# Altium footprint library MHI_Board.PcbLib: 12 footprints
Each footprint in its own frame and in the unit in brackets; x right, y up, seen from the top. Pads: shape width x height; smd on the part's side, far side on the other; paste and mask are expansions set on the pad; w line width, h text height; cw(c..) or ccw(c..) is an arc to the next point about the centre after c.
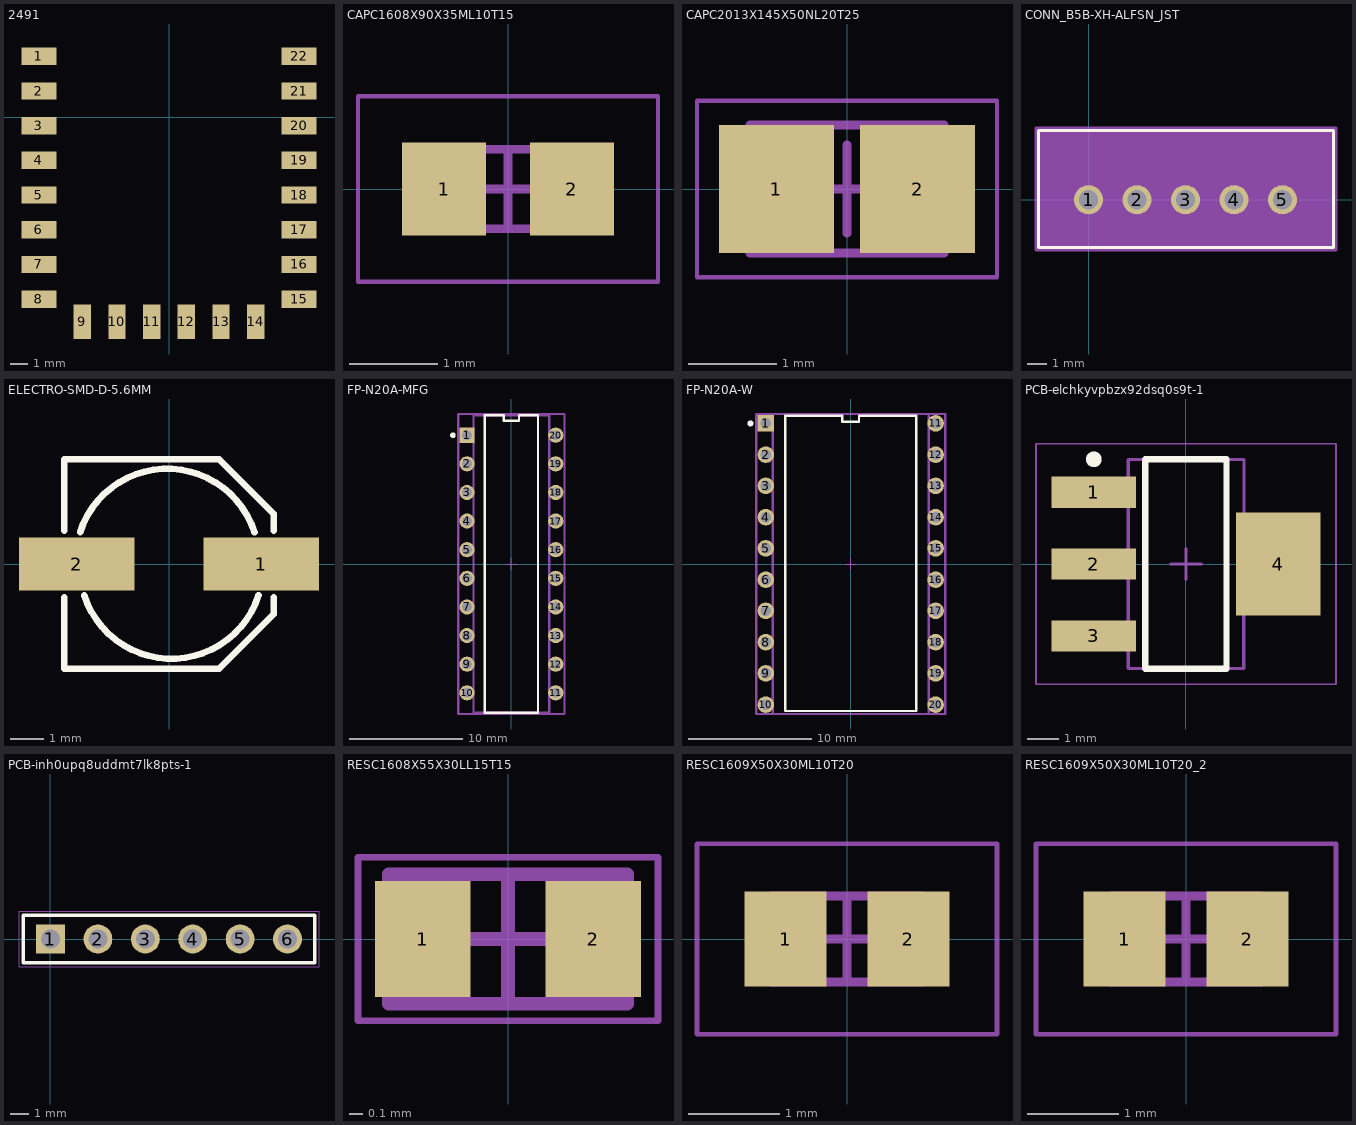
[diagram p0: the footprints below, top view; thin cyan lines are the x and y axes]

## 2491 [mm]
pads (22):
  rect 2x1 smd: 1(-7.5,3.5) 2(-7.5,1.5) 3(-7.5,-0.5) 4(-7.5,-2.5) 5(-7.5,-4.5) 6(-7.5,-6.5) 7(-7.5,-8.5) 8(-7.5,-10.5) 15(7.5,-10.5) 16(7.5,-8.5) 17(7.5,-6.5) 18(7.5,-4.5) 19(7.5,-2.5) 20(7.5,-0.5) 21(7.5,1.5) 22(7.5,3.5)
  rect 1x2 smd: 9(-5,-11.8) 10(-3,-11.8) 11(-1,-11.8) 12(1,-11.8) 13(3,-11.8) 14(5,-11.8)
3D body "ESP8266-12.step": height 3.82, standoff -0.05, extent -8.009,-12.03 8.006,12

## CAPC1608X90X35ML10T15 [mm]
pads (2):
  rect 0.95x1.05 smd: 1(-0.725,0) 2(0.725,0)
Mechanical 13:
  lines w0.1: -0.85,-0.45 -0.85,0.45 0.85,0.45 0.85,-0.45 -0.85,-0.45
Mechanical 15:
  lines w0.05: -1.7,-1.05 -1.7,1.05 1.7,1.05 1.7,-1.05 -1.7,-1.05
  lines w0.1: -0.45,0 0.45,0 ; 0,-0.45 0,0.45
3D body: height 0.9, standoff 0, extent -0.5,-0.45 0.5,0.45
3D body: height 0.9, standoff 0, extent -0.85,-0.45 -0.5,0.45
3D body: height 0.9, standoff 0, extent 0.5,-0.45 0.85,0.45

## CAPC2013X145X50NL20T25 [mm]
pads (2):
  rect 1.3x1.45 smd: 1(-0.8,0) 2(0.8,0)
Mechanical 13:
  lines w0.1: -1.1,-0.725 -1.1,0.725 1.1,0.725 1.1,-0.725 -1.1,-0.725
Mechanical 15:
  lines w0.05: -1.7,-1 -1.7,1 1.7,1 1.7,-1 -1.7,-1
  lines w0.1: -0.5,0 0.5,0 ; 0,-0.5 0,0.5
3D body: height 1.45, standoff 0, extent -0.6,-0.725 0.6,0.725
3D body: height 1.45, standoff 0, extent -1.1,-0.725 -0.6,0.725
3D body: height 1.45, standoff 0, extent 0.6,-0.725 1.1,0.725

## CONN_B5B-XH-ALFSN_JST [mil]
pads (5):
  round 59 / inner round 60 / far side round 59 hole 39 paste-29.5 mask+0: 1(0,0) 2(98.43,0) 3(196.85,0) 4(295.28,0) 5(393.7,0)
Top Overlay:
  lines w6: -101.67,-97.17 497.33,-97.17 497.33,140.83 -101.67,140.83 -101.67,-97.17
Mechanical 13:
  circle w20: c0,-75 r15
  lines w1: -96.67,-92.17 492.33,-92.17 492.33,135.83 -96.67,135.83 -96.67,-92.17
Mechanical 15:
  region: 502.33,145.83 -106.67,145.83 -106.67,-102.17 502.33,-102.17
  lines w6: -106.67,-102.17 -106.67,145.83 502.33,145.83 502.33,-102.17 -106.67,-102.17

## ELECTRO-SMD-D-5.6MM [mm]
pads (2):
  rect 3.5x1.6 smd: 1(2.8,0) 2(-2.8,0)
Top Overlay:
  lines w0.203: -3.175,-1.016 -3.175,-3.175 1.524,-3.175 3.175,-1.524 3.175,-1.016 ; -3.175,1.016 -3.175,3.175 1.524,3.175 3.175,1.524 3.175,1.016 ; -2.696,0.965 cw(c-0.053,0.112) 2.591,0.965 ; -2.569,-0.95 ccw(c0.074,-0.097) 2.718,-0.95
Mechanical 4:
3D body "ELECTRO-SMD-D-5.6MM.stp": height 5.5, standoff 0, extent -3.9,-3.175 3.9,3.175

## FP-N20A-MFG [mm]
pads (20):
  rect 1.35x1.35 hole 0.85 paste-1000 mask+0: 1(-3.937,11.43)
  round 1.35 hole 0.85 paste-1000 mask+0: 2(-3.937,8.89) 3(-3.937,6.35) 4(-3.937,3.81) 5(-3.937,1.27) 6(-3.937,-1.27) 7(-3.937,-3.81) 8(-3.937,-6.35) 9(-3.937,-8.89) 10(-3.937,-11.43) 11(3.937,-11.43) 12(3.937,-8.89) 13(3.937,-6.35) 14(3.937,-3.81) 15(3.937,-1.27) 16(3.937,1.27) 17(3.937,3.81) 18(3.937,6.35) 19(3.937,8.89) 20(3.937,11.43)
Top Overlay:
  circle w0.25: c-5.187,11.43 r0.125
  lines w0.2: -2.365,-13.21 -2.365,13.21 -0.676,13.21 -0.676,12.71 0.676,12.71 0.676,13.21 2.365,13.21 2.365,-13.21 -2.365,-13.21
Top 3D Body:
  lines w0.2: -3.365,-13.21 3.365,-13.21 3.365,13.21 -3.365,13.21 -3.365,-13.21
Top Courtyard:
  lines w0.2: -4.712,-13.31 4.712,-13.31 4.712,13.31 -4.712,13.31 -4.712,-13.31
Top Assembly:
  lines w0.2: -4.712,-13.31 4.712,-13.31 4.712,13.31 -4.712,13.31 -4.712,-13.31
  text ".Designator" at 0,0.188 h1
Top Component Center:
  lines w0.1: -0.5,0 0.5,0 ; 0,-0.5 0,0.5
3D body "IC_ON_Semiconductor_MM74HC688N_eec.STEP": height 0.25, standoff 0, extent -4.712,-13.31 4.712,13.31

## FP-N20A-W [mm]
pads (20):
  rect 1.35x1.35 hole 0.85 paste-1000 mask+0: 1(-6.9,11.43)
  round 1.35 hole 0.85 paste-1000 mask+0: 2(-6.9,8.89) 3(-6.9,6.35) 4(-6.9,3.81) 5(-6.9,1.27) 6(-6.9,-1.27) 7(-6.9,-3.81) 8(-6.9,-6.35) 9(-6.9,-8.89) 10(-6.9,-11.43) 11(6.9,11.43) 12(6.9,8.89) 13(6.9,6.35) 14(6.9,3.81) 15(6.9,1.27) 16(6.9,-1.27) 17(6.9,-3.81) 18(6.9,-6.35) 19(6.9,-8.89) 20(6.9,-11.43)
Top Overlay:
  circle w0.25: c-8.147,11.43 r0.125
  lines w0.2: -5.325,-11.947 -5.325,12.065 -0.676,12.065 -0.676,11.557 0.676,11.557 0.676,12.065 5.325,12.065 5.325,-11.947 -5.325,-11.947
Top 3D Body:
  lines w0.2: -6.35,-12.192 6.35,-12.192 ; -6.326,-12.192 -6.326,12.192 ; -6.223,12.192 6.223,12.192 ; 6.326,-12.192 6.326,12.192
Top Courtyard:
  lines w0.2: -7.672,-12.192 7.672,-12.192 7.672,12.192 -7.672,12.192 -7.672,-12.192
Top Assembly:
  lines w0.2: -7.672,-12.192 7.672,-12.192 7.672,12.192 -7.672,12.192 -7.672,-12.192
  text ".Designator" at 0,0.188 h1
Top Component Center:
  lines w0.1: -0.5,0 0.5,0 ; 0,-0.5 0,0.5

## PCB-elchkyvpbzx92dsq0s9t-1 [mm]
pads (4):
  rect 2.7x1 smd: 1(-2.95,2.3) 2(-2.95,0) 3(-2.95,-2.3)
  rect 2.7x3.3 smd: 4(2.95,0)
Top Overlay:
  circle w0.25: c-2.95,3.35 r0.125
  lines w0.2: -1.3,-3.35 1.3,-3.35 1.3,3.35 -1.3,3.35 -1.3,-3.35
Mechanical 13:
  lines w0.1: -1.85,-3.35 1.85,-3.35 1.85,3.35 -1.85,3.35 -1.85,-3.35
Mechanical 15:
  lines w0.05: -4.8,-3.85 4.8,-3.85 4.8,3.85 -4.8,3.85 -4.8,-3.85
  lines w0.1: -0.5,0 0.5,0 ; 0,-0.5 0,0.5
3D body: height 1.8, standoff 0.02, extent -1.85,-3.35 1.85,3.35

## PCB-inh0upq8uddmt7lk8pts-1 [mm]
pads (6):
  rect 1.55x1.55 hole 1.02: 1(0,0)
  round 1.55 hole 1.02: 2(2.54,0) 3(5.08,0) 4(7.62,0) 5(10.16,0) 6(12.7,0)
Top Overlay:
  lines w0.2: -1.46,-1.27 14.16,-1.27 14.16,1.27 -1.46,1.27 -1.46,-1.27
Mechanical 13:
  lines w0.1: -1.46,-1.27 14.16,-1.27 14.16,1.27 -1.46,1.27 -1.46,-1.27
Mechanical 15:
  lines w0.05: -1.685,-1.495 14.385,-1.495 14.385,1.495 -1.685,1.495 -1.685,-1.495
3D body "TSW-106-07-X-S.step": height 8.38, standoff -2.54, extent -1.27,-1.24 13.97,1.3

## RESC1608X55X30LL15T15 [mm]
pads (2):
  rect 0.7x0.85 smd: 1(-0.625,0) 2(0.625,0)
Mechanical 13:
  lines w0.1: -0.875,-0.475 0.875,-0.475 0.875,0.475 -0.875,0.475 -0.875,-0.475
Mechanical 15:
  lines w0.05: -1.1,-0.6 1.1,-0.6 1.1,0.6 -1.1,0.6 -1.1,-0.6
  lines w0.1: -0.475,0 0.475,0 ; 0,-0.475 0,0.475
3D body: height 0.55, standoff 0, extent 0.575,-0.475 0.875,0.475
3D body: height 0.55, standoff 0, extent -0.875,-0.475 -0.575,0.475
3D body: height 0.55, standoff 0, extent -0.575,-0.475 0.575,0.475

## RESC1609X50X30ML10T20 [mm]
pads (2):
  rect 0.9x1.05 smd: 1(-0.675,0) 2(0.675,0)
Mechanical 13:
  lines w0.1: -0.825,-0.475 0.825,-0.475 0.825,0.475 -0.825,0.475 -0.825,-0.475
Mechanical 15:
  lines w0.05: -1.65,-1.05 1.65,-1.05 1.65,1.05 -1.65,1.05 -1.65,-1.05
  lines w0.1: -0.475,0 0.475,0 ; 0,-0.475 0,0.475
3D body: height 0.5, standoff 0, extent 0.525,-0.475 0.825,0.475
3D body: height 0.5, standoff 0, extent -0.825,-0.475 -0.525,0.475
3D body: height 0.5, standoff 0, extent -0.525,-0.475 0.525,0.475

## RESC1609X50X30ML10T20_2 [mm]
pads (2):
  rect 0.9x1.05 smd: 1(-0.675,0) 2(0.675,0)
Mechanical 13:
  lines w0.1: -0.825,-0.475 0.825,-0.475 0.825,0.475 -0.825,0.475 -0.825,-0.475
Mechanical 15:
  lines w0.05: -1.65,-1.05 1.65,-1.05 1.65,1.05 -1.65,1.05 -1.65,-1.05
  lines w0.1: -0.475,0 0.475,0 ; 0,-0.475 0,0.475
3D body: height 0.5, standoff 0, extent 0.525,-0.475 0.825,0.475
3D body: height 0.5, standoff 0, extent -0.825,-0.475 -0.525,0.475
3D body: height 0.5, standoff 0, extent -0.525,-0.475 0.525,0.475